# Altium schematic symbol library ANT.SchLib: 1 symbol
Pins are listed as number, name and electrical type; pins without a type are passive.

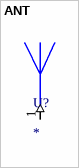
[diagram p0: symbol ANT]

## ANT
designator U?
Value: *
pins: 1 (in)